# EAGLE library part 23LCV1024 (library kvitekp)
Serial SRAM 1Mbit with battery backup, SPI bus, Microchip
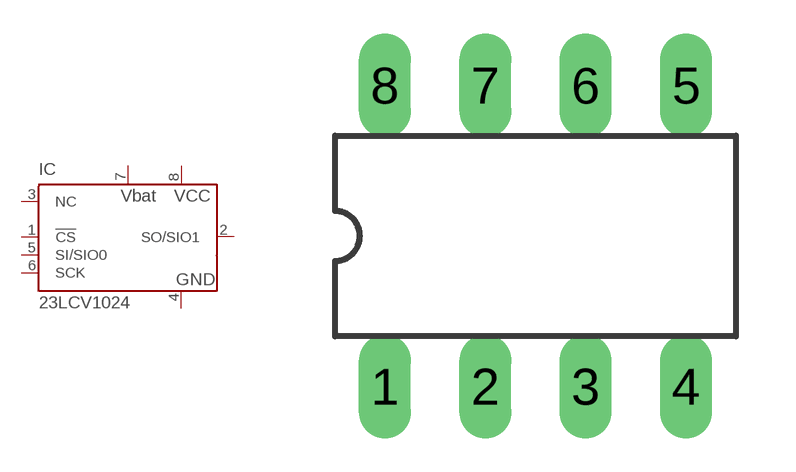
[diagram p8: symbol with the pads of DIL08; footprint DIL08]

Designator prefix IC

## 23LCV1024  [DIL08]
1  !CS  in
2  SO/SIO1
3  NC  in
4  GND  pwr
5  SI/SIO0  in
6  SCK  in
7  VBAT  pwr
8  VCC  pwr

## Footprint DIL08 (pad centres in mm)
Dual In Line package type P
drill 0.813 long: 1 -3.81,-3.81; 2 -1.27,-3.81; 3 1.27,-3.81; 4 3.81,-3.81; 5 3.81,3.81; 6 1.27,3.81; 7 -1.27,3.81; 8 -3.81,3.81